# EAGLE library part 8MM-DPDT (library subieduino-lib)
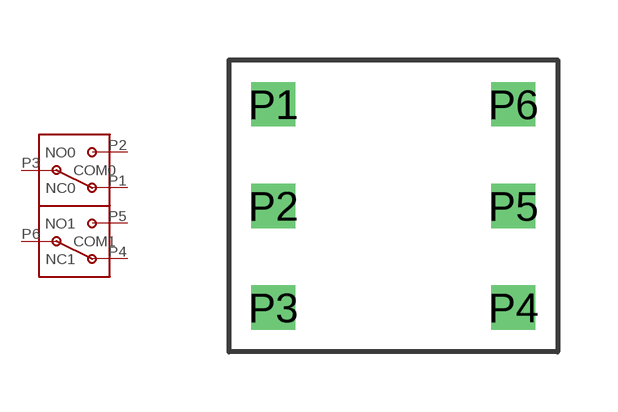
[diagram p3: symbol with the pads of 8MM-DPDT; footprint 8MM-DPDT]

Designator prefix SW

## 8MM-DPDT  [8MM-DPDT]
P1  NC0
P2  NO0
P3  COM0
P4  NC1
P5  NO1
P6  COM1

## Footprint 8MM-DPDT (pad centres in mm)
drill 0.6 square: P1 -3.81,2.54; P2 -3.81,0; P3 -3.81,-2.54; P4 2.19,-2.54; P5 2.19,0; P6 2.19,2.54